# Altium schematic symbol library dac80501mdgsr.SchLib: 1 symbol
Pins are listed as number, name and electrical type; pins without a type are passive.

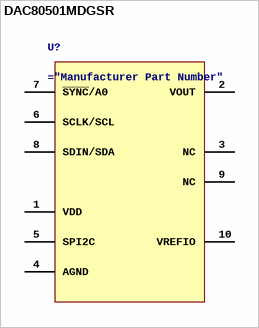
[diagram p0: symbol DAC80501MDGSR]

## DAC80501MDGSR
designator U?
16 Bit Digital to Analog Converter 1 10-VSSOP
pins: 1 VDD, 2 VOUT, 3 NC, 4 AGND, 5 SPI2C, 6 SCLK/SCL, 7 ~{SYNC}/A0, 8 SDIN/SDA, 9 NC, 10 VREFIO